# Altium schematic symbol library TEST.SCHLIB: 1 symbol
Pins are listed as number, name and electrical type; pins without a type are passive.

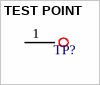
[diagram p0: symbol TEST POINT]

## TEST POINT
designator TP?, comment TEST  (value not drawn)
TEST POINT; Value: TEST POINT
footprint TP-C (FOR TEST POINT/CIRCLE WITH VIA)
pins: 1 TEST